# Altium schematic symbol library Cap 10uF_400V Nichicon.Schlib: 1 symbol
Pins are listed as number, name and electrical type; pins without a type are passive.

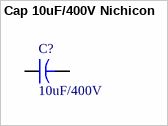
[diagram p0: symbol Cap 10uF/400V Nichicon]

## Cap 10uF/400V Nichicon
designator C?, comment 10uF/400V
Electrolytic capacitor
pins: 1, 2